# Altium footprint library BTS70012-1ESP.PcbLib: 1 footprints
Each footprint in its own frame and in the unit in brackets; x right, y up, seen from the top. Pads: shape width x height; smd on the part's side, far side on the other; paste and mask are expansions set on the pad; w line width, h text height; cw(c..) or ccw(c..) is an arc to the next point about the centre after c.
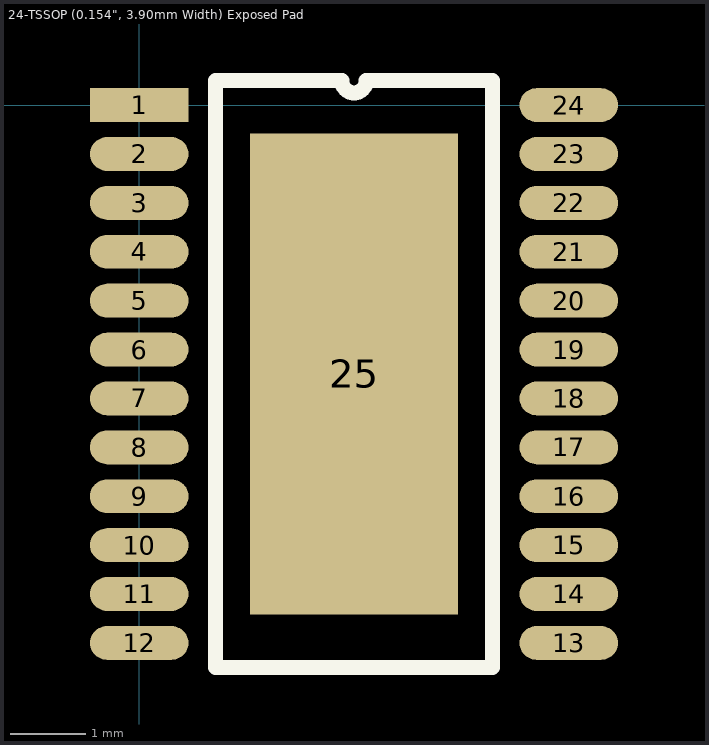
[diagram p0: the footprint, top view; thin cyan lines are the x and y axes]

## 24-TSSOP (0.154", 3.90mm Width) Exposed Pad [mm]
pads (25):
  rect 1.31x0.45 smd: 1(0,0)
  oval 1.31x0.45 smd: 2(0,-0.65) 3(0,-1.3) 4(0,-1.95) 5(0,-2.6) 6(0,-3.25) 7(0,-3.9) 8(0,-4.55) 9(0,-5.2) 10(0,-5.85) 11(0,-6.5) 12(0,-7.15) 13(5.71,-7.15) 14(5.71,-6.5) 15(5.71,-5.85) 16(5.71,-5.2) 17(5.71,-4.55) 18(5.71,-3.9) 19(5.71,-3.25) 20(5.71,-2.6) 21(5.71,-1.95) 22(5.71,-1.3) 23(5.71,-0.65) 24(5.71,0)
  rect 2.77x6.4 smd paste-2539.97: 25(2.855,-3.575)
Top Overlay:
  lines w0.2: 1.016,-7.475 4.699,-7.475 4.699,0.325 3.017,0.325 cw(c2.855,0.325) 2.692,0.325 1.016,0.325 1.016,-7.475
Top Paste:
  rectangle: 1.57,-6.553 4.14,-3.653
  rectangle: 1.57,-3.556 4.14,-0.656